# Altium footprint library nrf2401.PcbLib: 1 footprints
Each footprint in its own frame and in the unit in brackets; x right, y up, seen from the top. Pads: shape width x height; smd on the part's side, far side on the other; paste and mask are expansions set on the pad; w line width, h text height; cw(c..) or ccw(c..) is an arc to the next point about the centre after c.
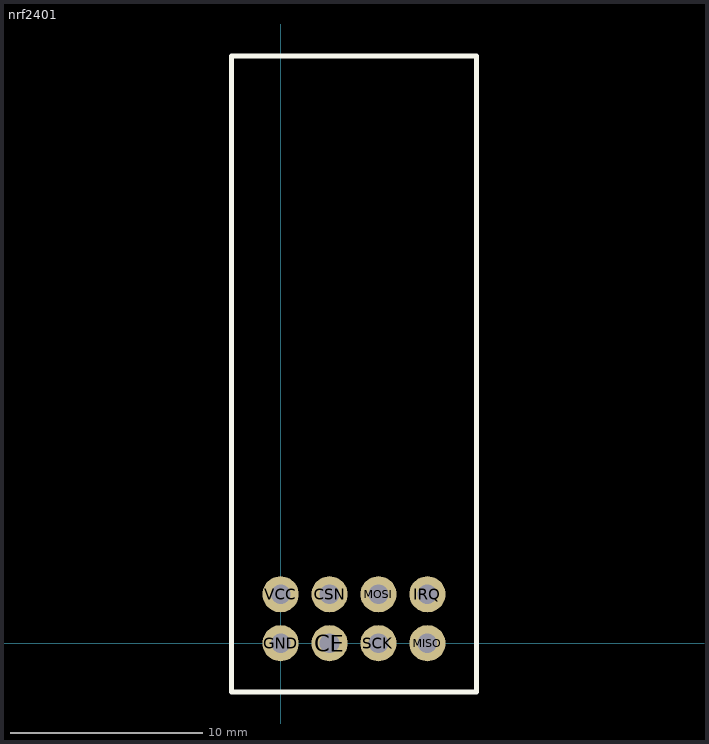
[diagram p0: the footprint, top view; thin cyan lines are the x and y axes]

## nrf2401 [mil]
pads (8):
  round 74 hole 40: CE(100,0) CSN(100,100) GND(0,0) IRQ(300,100) MISO(300,0) MOSI(200,100) SCK(200,0) VCC(0,100)
Top Overlay:
  lines w10: -100,-100 -100,1200 400,1200 400,-100 -100,-100